# Altium integrated library Diodes - TVS.IntLib: 5379 symbols (part 35 of 122)
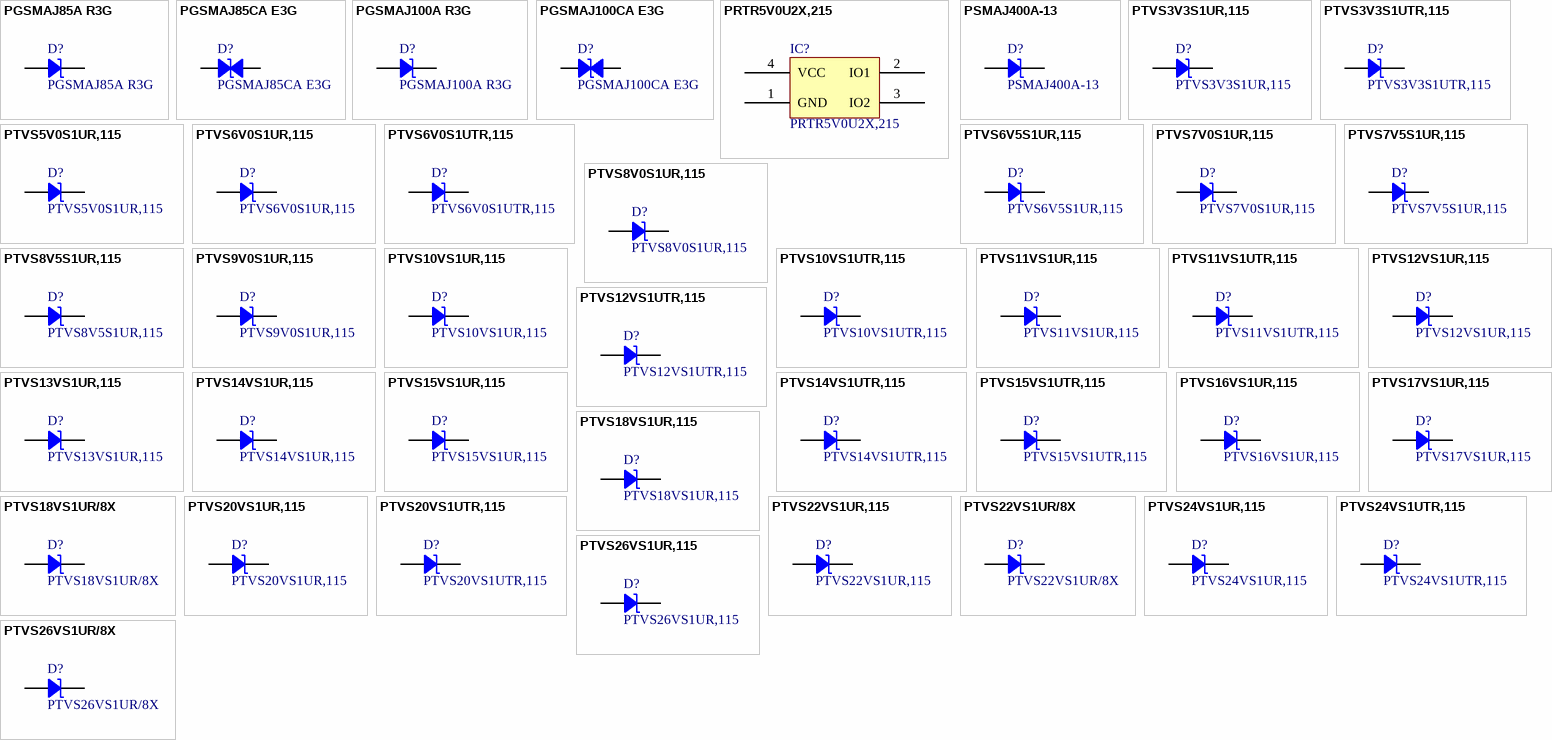
[diagram p168: symbols PGSMAJ85A R3G to PTVS26VS1UR/8X]

## PTVS16VS1UR,115
designator D?
TVS DIODE 16V 26V CFP3; Manufacturer: Nexperia USA Inc.; Current - Peak Pulse (10/1000µs): 15.4A; Power Line Protection: No; Power - Peak Pulse: 400W; Type: Zener; Unidirectional Channels: 1; Voltage - Breakdown (Min): 17.8V; Part Number: PTVS16VS1UR,115; Applications: Automotive; ComponentLink1Description: Datasheet; ComponentLink1URL: https://assets.nexperia.com/documents/data-sheet/PTVSXS1UR_SER.pdf; ComponentLink2Description: DigiKey Link; ComponentLink2URL: http://digikey.com/product-detail/en/nexperia-usa-inc/PTVS16VS1UR115/1727-5863-1-ND/2697350; LastUpdated: 9/2/2020 1:28:40 AM; Lifecycle Status: Active; Minimum Order: 1; Mounting Type: Surface Mount; Operating Temperature: -55°C ~ 150°C (TA); Package / Case: SOD-123W; Packaging: TapeAndReel; PartId: 10279; Part Status: Active; Price: 0.09; Series: Automotive, AEC-Q101; Supplier 1: DigiKey; Supplier Part Number 1: 1727-5863-1-ND; Supplier Device Package: CFP3; Voltage - Clamping (Max) @ Ipp: 26V; Voltage - Reverse Standoff (Typ): 16V
footprint SOD-123W
pins: 1, 2

## PTVS17VS1UR,115
designator D?
TVS DIODE 17V 27.6V CFP3; Manufacturer: Nexperia USA Inc.; Current - Peak Pulse (10/1000µs): 14.5A; Power Line Protection: No; Power - Peak Pulse: 400W; Type: Zener; Unidirectional Channels: 1; Voltage - Breakdown (Min): 18.9V; Part Number: PTVS17VS1UR,115; Applications: Automotive; ComponentLink1Description: Datasheet; ComponentLink1URL: https://assets.nexperia.com/documents/data-sheet/PTVSXS1UR_SER.pdf; ComponentLink2Description: DigiKey Link; ComponentLink2URL: http://digikey.com/product-detail/en/nexperia-usa-inc/PTVS17VS1UR115/1727-5864-1-ND/2697382; LastUpdated: 9/2/2020 1:28:40 AM; Lifecycle Status: Active; Minimum Order: 1; Mounting Type: Surface Mount; Operating Temperature: -55°C ~ 150°C (TA); Package / Case: SOD-123W; Packaging: TapeAndReel; PartId: 10282; Part Status: Active; Price: 0.09; Series: Automotive, AEC-Q101; Supplier 1: DigiKey; Supplier Part Number 1: 1727-5864-1-ND; Supplier Device Package: CFP3; Voltage - Clamping (Max) @ Ipp: 27.6V; Voltage - Reverse Standoff (Typ): 17V
footprint SOD-123W
pins: 1, 2

## PTVS18VS1UR,115
designator D?
TVS DIODE 18V 29.2V CFP3; Manufacturer: Nexperia USA Inc.; Current - Peak Pulse (10/1000µs): 13.7A; Power Line Protection: No; Power - Peak Pulse: 400W; Type: Zener; Unidirectional Channels: 1; Voltage - Breakdown (Min): 20V; Part Number: PTVS18VS1UR,115; Applications: Automotive; ComponentLink1Description: Datasheet; ComponentLink1URL: https://assets.nexperia.com/documents/data-sheet/PTVSXS1UR_SER.pdf; ComponentLink2Description: DigiKey Link; ComponentLink2URL: http://digikey.com/product-detail/en/nexperia-usa-inc/PTVS18VS1UR115/1727-5319-1-ND/2676795; LastUpdated: 9/2/2020 1:28:40 AM; Lifecycle Status: Active; Minimum Order: 1; Mounting Type: Surface Mount; Operating Temperature: -55°C ~ 150°C (TA); Package / Case: SOD-123W; Packaging: TapeAndReel; PartId: 10320; Part Status: Active; Price: 0.09; Series: Automotive, AEC-Q101; Supplier 1: DigiKey; Supplier Part Number 1: 1727-5319-1-ND; Supplier Device Package: CFP3; Voltage - Clamping (Max) @ Ipp: 29.2V; Voltage - Reverse Standoff (Typ): 18V
footprint SOD-123W
pins: 1, 2

## PTVS18VS1UR/8X
designator D?
PTVS18VS1UR/8/SOD123/SOD2; Manufacturer: Nexperia USA Inc.; Current - Peak Pulse (10/1000µs): 13.7A; Power Line Protection: No; Power - Peak Pulse: 400W; Type: Zener; Unidirectional Channels: 1; Voltage - Breakdown (Min): 20V; Voltage - Clamping (Max) @ Ipp: 29.2V; Voltage - Reverse Standoff (Typ): 18V; Part Number: PTVS18VS1UR/8X; Applications: Automotive; ComponentLink1Description: Datasheet; ComponentLink1URL: https://assets.nexperia.com/documents/data-sheet/PTVSXS1UR_SER.pdf; ComponentLink2Description: DigiKey Link; ComponentLink2URL: http://digikey.com/product-detail/en/nexperia-usa-inc/PTVS18VS1UR-8X/1727-8454-1-ND/9759613; LastUpdated: 9/2/2020 1:28:40 AM; Lifecycle Status: Active; Minimum Order: 1; Mounting Type: Surface Mount; Operating Temperature: -55°C ~ 150°C (TA); Package / Case: SOD-123W; Packaging: TapeAndReel; PartId: 10310; Part Status: Active; Price: 0.09; Series: Automotive, AEC-Q101; Supplier 1: DigiKey; Supplier Part Number 1: 1727-8454-1-ND; Supplier Device Package: CFP3
footprint SOD-123W
pins: 1, 2

## PTVS20VS1UR,115
designator D?
TVS DIODE 20V 32.4V CFP3; Manufacturer: Nexperia USA Inc.; Current - Peak Pulse (10/1000µs): 12.3A; Power Line Protection: No; Power - Peak Pulse: 400W; Type: Zener; Unidirectional Channels: 1; Voltage - Breakdown (Min): 22.2V; Part Number: PTVS20VS1UR,115; Applications: Automotive; ComponentLink1Description: Datasheet; ComponentLink1URL: https://assets.nexperia.com/documents/data-sheet/PTVSXS1UR_SER.pdf; ComponentLink2Description: DigiKey Link; ComponentLink2URL: http://digikey.com/product-detail/en/nexperia-usa-inc/PTVS20VS1UR115/1727-5865-1-ND/2697361; LastUpdated: 9/2/2020 1:28:40 AM; Lifecycle Status: Active; Minimum Order: 1; Mounting Type: Surface Mount; Operating Temperature: -55°C ~ 150°C (TA); Package / Case: SOD-123W; Packaging: TapeAndReel; PartId: 10330; Part Status: Active; Price: 0.10; Series: Automotive, AEC-Q101; Supplier 1: DigiKey; Supplier Part Number 1: 1727-5865-1-ND; Supplier Device Package: CFP3; Voltage - Clamping (Max) @ Ipp: 32.4V; Voltage - Reverse Standoff (Typ): 20V
footprint SOD-123W
pins: 1, 2

## PTVS20VS1UTR,115
designator D?
TVS DIODE 20V 32.4V CFP3; Manufacturer: Nexperia USA Inc.; Current - Peak Pulse (10/1000µs): 12.3A; Power Line Protection: No; Power - Peak Pulse: 400W; Type: Zener; Unidirectional Channels: 1; Voltage - Breakdown (Min): 22.2V; Part Number: PTVS20VS1UTR,115; Applications: Automotive; ComponentLink1Description: Datasheet; ComponentLink1URL: https://assets.nexperia.com/documents/data-sheet/PTVSXS1UTR_SER.pdf; ComponentLink2Description: DigiKey Link; ComponentLink2URL: http://digikey.com/product-detail/en/nexperia-usa-inc/PTVS20VS1UTR115/1727-1400-1-ND/4386446; LastUpdated: 9/2/2020 1:28:40 AM; Lifecycle Status: Active; Minimum Order: 1; Mounting Type: Surface Mount; Operating Temperature: -55°C ~ 185°C (TA); Package / Case: SOD-123W; Packaging: TapeAndReel; PartId: 10333; Part Status: Active; Price: 0.10; Series: Automotive, AEC-Q101; Supplier 1: DigiKey; Supplier Part Number 1: 1727-1400-1-ND; Supplier Device Package: CFP3; Voltage - Clamping (Max) @ Ipp: 32.4V; Voltage - Reverse Standoff (Typ): 20V
footprint SOD-123W
pins: 1, 2

## PTVS22VS1UR,115
designator D?
TVS DIODE 22V 35.5V CFP3; Manufacturer: Nexperia USA Inc.; Current - Peak Pulse (10/1000µs): 11.3A; Power Line Protection: No; Power - Peak Pulse: 400W; Type: Zener; Unidirectional Channels: 1; Voltage - Breakdown (Min): 24.4V; Part Number: PTVS22VS1UR,115; Applications: Automotive; ComponentLink1Description: Datasheet; ComponentLink1URL: https://assets.nexperia.com/documents/data-sheet/PTVSXS1UR_SER.pdf; ComponentLink2Description: DigiKey Link; ComponentLink2URL: http://digikey.com/product-detail/en/nexperia-usa-inc/PTVS22VS1UR115/1727-5866-1-ND/2697383; LastUpdated: 9/2/2020 1:28:40 AM; Lifecycle Status: Active; Minimum Order: 1; Mounting Type: Surface Mount; Operating Temperature: -55°C ~ 150°C (TA); Package / Case: SOD-123W; Packaging: TapeAndReel; PartId: 10272; Part Status: Active; Price: 0.10; Series: Automotive, AEC-Q101; Supplier 1: DigiKey; Supplier Part Number 1: 1727-5866-1-ND; Supplier Device Package: CFP3; Voltage - Clamping (Max) @ Ipp: 35.5V; Voltage - Reverse Standoff (Typ): 22V
footprint SOD-123W
pins: 1, 2

## PTVS22VS1UR/8X
designator D?
PTVS22VS1UR/8/SOD123/SOD2; Manufacturer: Nexperia USA Inc.; Current - Peak Pulse (10/1000µs): 11.3A; Power Line Protection: No; Power - Peak Pulse: 400W; Type: Zener; Unidirectional Channels: 1; Voltage - Breakdown (Min): 24.4V; Voltage - Clamping (Max) @ Ipp: 35.5V; Voltage - Reverse Standoff (Typ): 22V; Part Number: PTVS22VS1UR/8X; Applications: Automotive; ComponentLink1Description: Datasheet; ComponentLink1URL: https://assets.nexperia.com/documents/data-sheet/PTVSXS1UR_SER.pdf; ComponentLink2Description: DigiKey Link; ComponentLink2URL: http://digikey.com/product-detail/en/nexperia-usa-inc/PTVS22VS1UR-8X/1727-8455-1-ND/9759614; LastUpdated: 9/2/2020 1:28:40 AM; Lifecycle Status: Active; Minimum Order: 0; Mounting Type: Surface Mount; Operating Temperature: -55°C ~ 150°C (TA); Package / Case: SOD-123W; Packaging: TapeAndReel; PartId: 10292; Part Status: Active; Price: 0.10; Series: Automotive, AEC-Q101; Supplier 1: DigiKey; Supplier Part Number 1: 1727-8455-1-ND; Supplier Device Package: CFP3
footprint SOD-123W
pins: 1, 2

## PTVS24VS1UR,115
designator D?
TVS DIODE 24V 38.9V CFP3; Manufacturer: Nexperia USA Inc.; Current - Peak Pulse (10/1000µs): 10.3A; Power Line Protection: No; Power - Peak Pulse: 400W; Type: Zener; Unidirectional Channels: 1; Voltage - Breakdown (Min): 26.7V; Part Number: PTVS24VS1UR,115; Applications: Automotive; ComponentLink1Description: Datasheet; ComponentLink1URL: https://assets.nexperia.com/documents/data-sheet/PTVSXS1UR_SER.pdf; ComponentLink2Description: DigiKey Link; ComponentLink2URL: http://digikey.com/product-detail/en/nexperia-usa-inc/PTVS24VS1UR115/1727-5867-1-ND/2697357; LastUpdated: 9/2/2020 1:28:40 AM; Lifecycle Status: Active; Minimum Order: 1; Mounting Type: Surface Mount; Operating Temperature: -55°C ~ 150°C (TA); Package / Case: SOD-123W; Packaging: TapeAndReel; PartId: 10319; Part Status: Active; Price: 0.10; Series: Automotive, AEC-Q101; Supplier 1: DigiKey; Supplier Part Number 1: 1727-5867-1-ND; Supplier Device Package: CFP3; Voltage - Clamping (Max) @ Ipp: 38.9V; Voltage - Reverse Standoff (Typ): 24V
footprint SOD-123W
pins: 1, 2

## PTVS24VS1UTR,115
designator D?
TVS DIODE 24V 38.9V CFP3; Manufacturer: Nexperia USA Inc.; Current - Peak Pulse (10/1000µs): 10.3A; Power Line Protection: No; Power - Peak Pulse: 400W; Type: Zener; Unidirectional Channels: 1; Voltage - Breakdown (Min): 26.7V; Part Number: PTVS24VS1UTR,115; Applications: Automotive; ComponentLink1Description: Datasheet; ComponentLink1URL: https://assets.nexperia.com/documents/data-sheet/PTVSXS1UTR_SER.pdf; ComponentLink2Description: DigiKey Link; ComponentLink2URL: http://digikey.com/product-detail/en/nexperia-usa-inc/PTVS24VS1UTR115/1727-1404-1-ND/4386450; LastUpdated: 9/2/2020 1:28:40 AM; Lifecycle Status: Active; Minimum Order: 1; Mounting Type: Surface Mount; Operating Temperature: -55°C ~ 185°C (TA); Package / Case: SOD-123W; Packaging: TapeAndReel; PartId: 10289; Part Status: Active; Price: 0.10; Series: Automotive, AEC-Q101; Supplier 1: DigiKey; Supplier Part Number 1: 1727-1404-1-ND; Supplier Device Package: CFP3; Voltage - Clamping (Max) @ Ipp: 38.9V; Voltage - Reverse Standoff (Typ): 24V
footprint SOD-123W
pins: 1, 2

## PTVS26VS1UR,115
designator D?
TVS DIODE 26V 42.1V CFP3; Manufacturer: Nexperia USA Inc.; Current - Peak Pulse (10/1000µs): 9.5A; Power Line Protection: No; Power - Peak Pulse: 400W; Type: Zener; Unidirectional Channels: 1; Voltage - Breakdown (Min): 28.9V; Part Number: PTVS26VS1UR,115; Applications: Automotive; ComponentLink1Description: Datasheet; ComponentLink1URL: https://assets.nexperia.com/documents/data-sheet/PTVSXS1UR_SER.pdf; ComponentLink2Description: DigiKey Link; ComponentLink2URL: http://digikey.com/product-detail/en/nexperia-usa-inc/PTVS26VS1UR115/1727-5868-1-ND/2697442; LastUpdated: 9/2/2020 1:28:40 AM; Lifecycle Status: Active; Minimum Order: 1; Mounting Type: Surface Mount; Operating Temperature: -55°C ~ 150°C (TA); Package / Case: SOD-123W; Packaging: TapeAndReel; PartId: 10326; Part Status: Active; Price: 0.10; Series: Automotive, AEC-Q101; Supplier 1: DigiKey; Supplier Part Number 1: 1727-5868-1-ND; Supplier Device Package: CFP3; Voltage - Clamping (Max) @ Ipp: 42.1V; Voltage - Reverse Standoff (Typ): 26V
footprint SOD-123W
pins: 1, 2

## PTVS26VS1UR/8X
designator D?
PTVS26VS1UR/8/SOD123/SOD2; Manufacturer: Nexperia USA Inc.; Current - Peak Pulse (10/1000µs): 9.5A; Power Line Protection: No; Power - Peak Pulse: 400W; Type: Zener; Unidirectional Channels: 1; Voltage - Breakdown (Min): 28.9V; Voltage - Clamping (Max) @ Ipp: 42.1V; Voltage - Reverse Standoff (Typ): 26V; Part Number: PTVS26VS1UR/8X; Applications: Automotive; ComponentLink1Description: Datasheet; ComponentLink1URL: https://assets.nexperia.com/documents/data-sheet/PTVSXS1UR_SER.pdf; ComponentLink2Description: DigiKey Link; ComponentLink2URL: http://digikey.com/product-detail/en/nexperia-usa-inc/PTVS26VS1UR-8X/1727-8453-1-ND/9759612; LastUpdated: 9/2/2020 1:28:40 AM; Lifecycle Status: Active; Minimum Order: 0; Mounting Type: Surface Mount; Operating Temperature: -55°C ~ 150°C (TA); Package / Case: SOD-123W; Packaging: TapeAndReel; PartId: 10311; Part Status: Active; Price: 0.09; Series: Automotive, AEC-Q101; Supplier 1: DigiKey; Supplier Part Number 1: 1727-8453-1-ND; Supplier Device Package: CFP3
footprint SOD-123W
pins: 1, 2

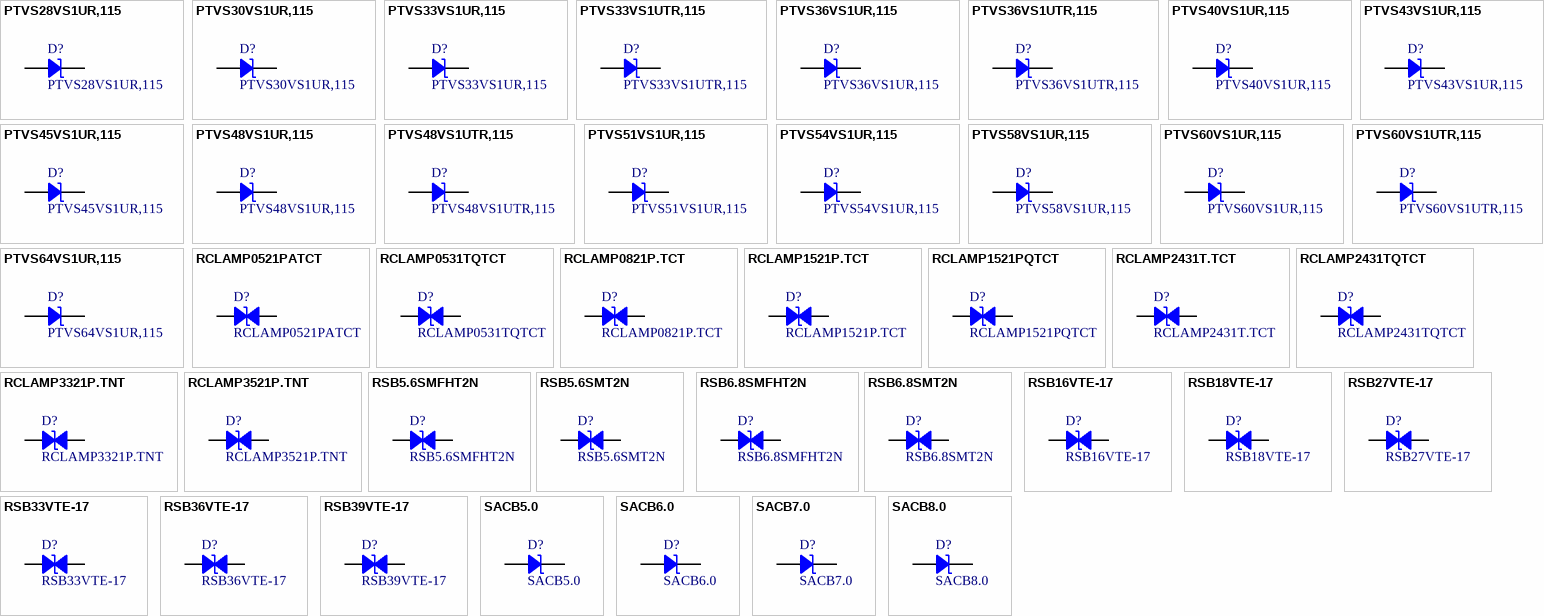
[diagram p38: symbols PTVS28VS1UR,115 to SACB8.0]

## PTVS28VS1UR,115
designator D?
TVS DIODE 28V 45.4V CFP3; Manufacturer: Nexperia USA Inc.; Current - Peak Pulse (10/1000µs): 8.8A; Power Line Protection: No; Power - Peak Pulse: 400W; Type: Zener; Unidirectional Channels: 1; Voltage - Breakdown (Min): 31.1V; Part Number: PTVS28VS1UR,115; Applications: Automotive; ComponentLink1Description: Datasheet; ComponentLink1URL: https://assets.nexperia.com/documents/data-sheet/PTVSXS1UR_SER.pdf; ComponentLink2Description: DigiKey Link; ComponentLink2URL: http://digikey.com/product-detail/en/nexperia-usa-inc/PTVS28VS1UR115/1727-5869-1-ND/2697472; LastUpdated: 9/2/2020 1:28:40 AM; Lifecycle Status: Active; Minimum Order: 1; Mounting Type: Surface Mount; Operating Temperature: -55°C ~ 150°C (TA); Package / Case: SOD-123W; Packaging: TapeAndReel; PartId: 10322; Part Status: Active; Price: 0.10; Series: Automotive, AEC-Q101; Supplier 1: DigiKey; Supplier Part Number 1: 1727-5869-1-ND; Supplier Device Package: CFP3; Voltage - Clamping (Max) @ Ipp: 45.4V; Voltage - Reverse Standoff (Typ): 28V
footprint SOD-123W
pins: 1, 2

## PTVS30VS1UR,115
designator D?
TVS DIODE 30V 48.4V CFP3; Manufacturer: Nexperia USA Inc.; Current - Peak Pulse (10/1000µs): 8.3A; Power Line Protection: No; Power - Peak Pulse: 400W; Type: Zener; Unidirectional Channels: 1; Voltage - Breakdown (Min): 33.3V; Part Number: PTVS30VS1UR,115; Applications: Automotive; ComponentLink1Description: Datasheet; ComponentLink1URL: https://assets.nexperia.com/documents/data-sheet/PTVSXS1UR_SER.pdf; ComponentLink2Description: DigiKey Link; ComponentLink2URL: http://digikey.com/product-detail/en/nexperia-usa-inc/PTVS30VS1UR115/1727-5870-1-ND/2697452; LastUpdated: 9/2/2020 1:28:41 AM; Lifecycle Status: Active; Minimum Order: 1; Mounting Type: Surface Mount; Operating Temperature: -55°C ~ 150°C (TA); Package / Case: SOD-123W; Packaging: TapeAndReel; PartId: 10353; Part Status: Active; Price: 0.10; Series: Automotive, AEC-Q101; Supplier 1: DigiKey; Supplier Part Number 1: 1727-5870-1-ND; Supplier Device Package: CFP3; Voltage - Clamping (Max) @ Ipp: 48.4V; Voltage - Reverse Standoff (Typ): 30V
footprint SOD-123W
pins: 1, 2

## PTVS33VS1UR,115
designator D?
TVS DIODE 33V 53.3V CFP3; Manufacturer: Nexperia USA Inc.; Current - Peak Pulse (10/1000µs): 7.5A; Power Line Protection: No; Power - Peak Pulse: 400W; Type: Zener; Unidirectional Channels: 1; Voltage - Breakdown (Min): 36.7V; Part Number: PTVS33VS1UR,115; Applications: Automotive; ComponentLink1Description: Datasheet; ComponentLink1URL: https://assets.nexperia.com/documents/data-sheet/PTVSXS1UR_SER.pdf; ComponentLink2Description: DigiKey Link; ComponentLink2URL: http://digikey.com/product-detail/en/nexperia-usa-inc/PTVS33VS1UR115/1727-5871-1-ND/2697445; LastUpdated: 9/2/2020 1:28:40 AM; Lifecycle Status: Active; Minimum Order: 1; Mounting Type: Surface Mount; Operating Temperature: -55°C ~ 150°C (TA); Package / Case: SOD-123W; Packaging: TapeAndReel; PartId: 10329; Part Status: Active; Price: 0.10; Series: Automotive, AEC-Q101; Supplier 1: DigiKey; Supplier Part Number 1: 1727-5871-1-ND; Supplier Device Package: CFP3; Voltage - Clamping (Max) @ Ipp: 53.3V; Voltage - Reverse Standoff (Typ): 33V
footprint SOD-123W
pins: 1, 2

## PTVS33VS1UTR,115
designator D?
TVS DIODE 33V 53.3V CFP3; Manufacturer: Nexperia USA Inc.; Current - Peak Pulse (10/1000µs): 7.5A; Power Line Protection: No; Power - Peak Pulse: 400W; Type: Zener; Unidirectional Channels: 1; Voltage - Breakdown (Min): 36.7V; Part Number: PTVS33VS1UTR,115; Applications: Automotive; ComponentLink1Description: Datasheet; ComponentLink1URL: https://assets.nexperia.com/documents/data-sheet/PTVSXS1UTR_SER.pdf; ComponentLink2Description: DigiKey Link; ComponentLink2URL: http://digikey.com/product-detail/en/nexperia-usa-inc/PTVS33VS1UTR115/1727-1412-1-ND/4386458; LastUpdated: 9/2/2020 1:28:40 AM; Lifecycle Status: Active; Minimum Order: 1; Mounting Type: Surface Mount; Operating Temperature: -55°C ~ 185°C (TA); Package / Case: SOD-123W; Packaging: TapeAndReel; PartId: 10348; Part Status: Active; Price: 0.10; Series: Automotive, AEC-Q101; Supplier 1: DigiKey; Supplier Part Number 1: 1727-1412-1-ND; Supplier Device Package: CFP3; Voltage - Clamping (Max) @ Ipp: 53.3V; Voltage - Reverse Standoff (Typ): 33V
footprint SOD-123W
pins: 1, 2

## PTVS36VS1UR,115
designator D?
TVS DIODE 36V 58.1V CFP3; Manufacturer: Nexperia USA Inc.; Current - Peak Pulse (10/1000µs): 6.9A; Power Line Protection: No; Power - Peak Pulse: 400W; Type: Zener; Unidirectional Channels: 1; Voltage - Breakdown (Min): 40V; Part Number: PTVS36VS1UR,115; Applications: Automotive; ComponentLink1Description: Datasheet; ComponentLink1URL: https://assets.nexperia.com/documents/data-sheet/PTVSXS1UR_SER.pdf; ComponentLink2Description: DigiKey Link; ComponentLink2URL: http://digikey.com/product-detail/en/nexperia-usa-inc/PTVS36VS1UR115/1727-5872-1-ND/2697461; LastUpdated: 9/2/2020 1:28:40 AM; Lifecycle Status: Active; Minimum Order: 1; Mounting Type: Surface Mount; Operating Temperature: -55°C ~ 150°C (TA); Package / Case: SOD-123W; Packaging: TapeAndReel; PartId: 10321; Part Status: Active; Price: 0.10; Series: Automotive, AEC-Q101; Supplier 1: DigiKey; Supplier Part Number 1: 1727-5872-1-ND; Supplier Device Package: CFP3; Voltage - Clamping (Max) @ Ipp: 58.1V; Voltage - Reverse Standoff (Typ): 36V
footprint SOD-123W
pins: 1, 2

## PTVS36VS1UTR,115
designator D?
TVS DIODE 36V 58.1V CFP3; Manufacturer: Nexperia USA Inc.; Current - Peak Pulse (10/1000µs): 6.9A; Power Line Protection: No; Power - Peak Pulse: 400W; Type: Zener; Unidirectional Channels: 1; Voltage - Breakdown (Min): 40V; Part Number: PTVS36VS1UTR,115; Applications: Automotive; ComponentLink1Description: Datasheet; ComponentLink1URL: https://assets.nexperia.com/documents/data-sheet/PTVSXS1UTR_SER.pdf; ComponentLink2Description: DigiKey Link; ComponentLink2URL: http://digikey.com/product-detail/en/nexperia-usa-inc/PTVS36VS1UTR115/1727-1414-1-ND/4386460; LastUpdated: 9/2/2020 1:28:40 AM; Lifecycle Status: Active; Minimum Order: 1; Mounting Type: Surface Mount; Operating Temperature: -55°C ~ 185°C (TA); Package / Case: SOD-123W; Packaging: TapeAndReel; PartId: 10288; Part Status: Active; Price: 0.10; Series: Automotive, AEC-Q101; Supplier 1: DigiKey; Supplier Part Number 1: 1727-1414-1-ND; Supplier Device Package: CFP3; Voltage - Clamping (Max) @ Ipp: 58.1V; Voltage - Reverse Standoff (Typ): 36V
footprint SOD-123W
pins: 1, 2

## PTVS40VS1UR,115
designator D?
TVS DIODE 40V 64.5V CFP3; Manufacturer: Nexperia USA Inc.; Current - Peak Pulse (10/1000µs): 6.2A; Power Line Protection: No; Power - Peak Pulse: 400W; Type: Zener; Unidirectional Channels: 1; Voltage - Breakdown (Min): 44.4V; Part Number: PTVS40VS1UR,115; Applications: Automotive; ComponentLink1Description: Datasheet; ComponentLink1URL: https://assets.nexperia.com/documents/data-sheet/PTVSXS1UR_SER.pdf; ComponentLink2Description: DigiKey Link; ComponentLink2URL: http://digikey.com/product-detail/en/nexperia-usa-inc/PTVS40VS1UR115/1727-5873-1-ND/2697460; LastUpdated: 9/2/2020 1:28:40 AM; Lifecycle Status: Active; Minimum Order: 1; Mounting Type: Surface Mount; Operating Temperature: -55°C ~ 150°C (TA); Package / Case: SOD-123W; Packaging: TapeAndReel; PartId: 10327; Part Status: Active; Price: 0.10; Series: Automotive, AEC-Q101; Supplier 1: DigiKey; Supplier Part Number 1: 1727-5873-1-ND; Supplier Device Package: CFP3; Voltage - Clamping (Max) @ Ipp: 64.5V; Voltage - Reverse Standoff (Typ): 40V
footprint SOD-123W
pins: 1, 2

## PTVS43VS1UR,115
designator D?
TVS DIODE 43V 69.4V CFP3; Manufacturer: Nexperia USA Inc.; Current - Peak Pulse (10/1000µs): 5.8A; Power Line Protection: No; Power - Peak Pulse: 400W; Type: Zener; Unidirectional Channels: 1; Voltage - Breakdown (Min): 47.8V; Part Number: PTVS43VS1UR,115; Applications: Automotive; ComponentLink1Description: Datasheet; ComponentLink1URL: https://assets.nexperia.com/documents/data-sheet/PTVSXS1UR_SER.pdf; ComponentLink2Description: DigiKey Link; ComponentLink2URL: http://digikey.com/product-detail/en/nexperia-usa-inc/PTVS43VS1UR115/1727-5874-1-ND/2697464; LastUpdated: 9/2/2020 1:28:40 AM; Lifecycle Status: Active; Minimum Order: 1; Mounting Type: Surface Mount; Operating Temperature: -55°C ~ 150°C (TA); Package / Case: SOD-123W; Packaging: TapeAndReel; PartId: 10266; Part Status: Active; Price: 0.10; Series: Automotive, AEC-Q101; Supplier 1: DigiKey; Supplier Part Number 1: 1727-5874-1-ND; Supplier Device Package: CFP3; Voltage - Clamping (Max) @ Ipp: 69.4V; Voltage - Reverse Standoff (Typ): 43V
footprint SOD-123W
pins: 1, 2

## PTVS45VS1UR,115
designator D?
TVS DIODE 45V 72.7V CFP3; Manufacturer: Nexperia USA Inc.; Current - Peak Pulse (10/1000µs): 5.5A; Power Line Protection: No; Power - Peak Pulse: 400W; Type: Zener; Unidirectional Channels: 1; Voltage - Breakdown (Min): 50V; Part Number: PTVS45VS1UR,115; Applications: Automotive; ComponentLink1Description: Datasheet; ComponentLink1URL: https://assets.nexperia.com/documents/data-sheet/PTVSXS1UR_SER.pdf; ComponentLink2Description: DigiKey Link; ComponentLink2URL: http://digikey.com/product-detail/en/nexperia-usa-inc/PTVS45VS1UR115/1727-5875-1-ND/2697463; LastUpdated: 9/2/2020 1:28:40 AM; Lifecycle Status: Active; Minimum Order: 1; Mounting Type: Surface Mount; Operating Temperature: -55°C ~ 150°C (TA); Package / Case: SOD-123W; Packaging: TapeAndReel; PartId: 10270; Part Status: Active; Price: 0.10; Series: Automotive, AEC-Q101; Supplier 1: DigiKey; Supplier Part Number 1: 1727-5875-1-ND; Supplier Device Package: CFP3; Voltage - Clamping (Max) @ Ipp: 72.7V; Voltage - Reverse Standoff (Typ): 45V
footprint SOD-123W
pins: 1, 2

## PTVS48VS1UR,115
designator D?
TVS DIODE 48V 77.4V CFP3; Manufacturer: Nexperia USA Inc.; Current - Peak Pulse (10/1000µs): 5.2A; Power Line Protection: No; Power - Peak Pulse: 400W; Type: Zener; Unidirectional Channels: 1; Voltage - Breakdown (Min): 53.3V; Part Number: PTVS48VS1UR,115; Applications: Automotive; ComponentLink1Description: Datasheet; ComponentLink1URL: https://assets.nexperia.com/documents/data-sheet/PTVSXS1UR_SER.pdf; ComponentLink2Description: DigiKey Link; ComponentLink2URL: http://digikey.com/product-detail/en/nexperia-usa-inc/PTVS48VS1UR115/1727-5876-1-ND/2697462; LastUpdated: 9/2/2020 1:28:40 AM; Lifecycle Status: Active; Minimum Order: 1; Mounting Type: Surface Mount; Operating Temperature: -55°C ~ 150°C (TA); Package / Case: SOD-123W; Packaging: TapeAndReel; PartId: 10274; Part Status: Active; Price: 0.10; Series: Automotive, AEC-Q101; Supplier 1: DigiKey; Supplier Part Number 1: 1727-5876-1-ND; Supplier Device Package: CFP3; Voltage - Clamping (Max) @ Ipp: 77.4V; Voltage - Reverse Standoff (Typ): 48V
footprint SOD-123W
pins: 1, 2

## PTVS48VS1UTR,115
designator D?
TVS DIODE 48V 77.4V CFP3; Manufacturer: Nexperia USA Inc.; Current - Peak Pulse (10/1000µs): 5.2A; Power Line Protection: No; Power - Peak Pulse: 400W; Type: Zener; Unidirectional Channels: 1; Voltage - Breakdown (Min): 53.3V; Part Number: PTVS48VS1UTR,115; Applications: Automotive; ComponentLink1Description: Datasheet; ComponentLink1URL: https://assets.nexperia.com/documents/data-sheet/PTVSXS1UTR_SER.pdf; ComponentLink2Description: DigiKey Link; ComponentLink2URL: http://digikey.com/product-detail/en/nexperia-usa-inc/PTVS48VS1UTR115/1727-1424-1-ND/4386470; LastUpdated: 9/2/2020 1:28:40 AM; Lifecycle Status: Active; Minimum Order: 1; Mounting Type: Surface Mount; Operating Temperature: -55°C ~ 185°C (TA); Package / Case: SOD-123W; Packaging: TapeAndReel; PartId: 10287; Part Status: Active; Price: 0.10; Series: Automotive, AEC-Q101; Supplier 1: DigiKey; Supplier Part Number 1: 1727-1424-1-ND; Supplier Device Package: CFP3; Voltage - Clamping (Max) @ Ipp: 77.4V; Voltage - Reverse Standoff (Typ): 48V
footprint SOD-123W
pins: 1, 2

## PTVS51VS1UR,115
designator D?
TVS DIODE 51V 82.4V CFP3; Manufacturer: Nexperia USA Inc.; Current - Peak Pulse (10/1000µs): 4.9A; Power Line Protection: No; Power - Peak Pulse: 400W; Type: Zener; Unidirectional Channels: 1; Voltage - Breakdown (Min): 56.7V; Part Number: PTVS51VS1UR,115; Applications: Automotive; ComponentLink1Description: Datasheet; ComponentLink1URL: https://assets.nexperia.com/documents/data-sheet/PTVSXS1UR_SER.pdf; ComponentLink2Description: DigiKey Link; ComponentLink2URL: http://digikey.com/product-detail/en/nexperia-usa-inc/PTVS51VS1UR115/1727-5877-1-ND/2697450; LastUpdated: 9/2/2020 1:28:40 AM; Lifecycle Status: Active; Minimum Order: 1; Mounting Type: Surface Mount; Operating Temperature: -55°C ~ 150°C (TA); Package / Case: SOD-123W; Packaging: TapeAndReel; PartId: 10280; Part Status: Active; Price: 0.10; Series: Automotive, AEC-Q101; Supplier 1: DigiKey; Supplier Part Number 1: 1727-5877-1-ND; Supplier Device Package: CFP3; Voltage - Clamping (Max) @ Ipp: 82.4V; Voltage - Reverse Standoff (Typ): 51V
footprint SOD-123W
pins: 1, 2

## PTVS54VS1UR,115
designator D?
TVS DIODE 54V 87.1V CFP3; Manufacturer: Nexperia USA Inc.; Current - Peak Pulse (10/1000µs): 4.6A; Power Line Protection: No; Power - Peak Pulse: 400W; Type: Zener; Unidirectional Channels: 1; Voltage - Breakdown (Min): 60V; Part Number: PTVS54VS1UR,115; Applications: Automotive; ComponentLink1Description: Datasheet; ComponentLink1URL: https://assets.nexperia.com/documents/data-sheet/PTVSXS1UR_SER.pdf; ComponentLink2Description: DigiKey Link; ComponentLink2URL: http://digikey.com/product-detail/en/nexperia-usa-inc/PTVS54VS1UR115/1727-5878-1-ND/2697426; LastUpdated: 9/2/2020 1:28:40 AM; Lifecycle Status: Active; Minimum Order: 1; Mounting Type: Surface Mount; Operating Temperature: -55°C ~ 150°C (TA); Package / Case: SOD-123W; Packaging: TapeAndReel; PartId: 10275; Part Status: Active; Price: 0.10; Series: Automotive, AEC-Q101; Supplier 1: DigiKey; Supplier Part Number 1: 1727-5878-1-ND; Supplier Device Package: CFP3; Voltage - Clamping (Max) @ Ipp: 87.1V; Voltage - Reverse Standoff (Typ): 54V
footprint SOD-123W
pins: 1, 2

## PTVS58VS1UR,115
designator D?
TVS DIODE 58V 93.6V CFP3; Manufacturer: Nexperia USA Inc.; Current - Peak Pulse (10/1000µs): 4.3A; Power Line Protection: No; Power - Peak Pulse: 400W; Type: Zener; Unidirectional Channels: 1; Voltage - Breakdown (Min): 64.4V; Part Number: PTVS58VS1UR,115; Applications: Automotive; ComponentLink1Description: Datasheet; ComponentLink1URL: https://assets.nexperia.com/documents/data-sheet/PTVSXS1UR_SER.pdf; ComponentLink2Description: DigiKey Link; ComponentLink2URL: http://digikey.com/product-detail/en/nexperia-usa-inc/PTVS58VS1UR115/1727-5344-1-ND/2676824; LastUpdated: 9/2/2020 1:28:40 AM; Lifecycle Status: Active; Minimum Order: 1; Mounting Type: Surface Mount; Operating Temperature: -55°C ~ 150°C (TA); Package / Case: SOD-123W; Packaging: TapeAndReel; PartId: 10283; Part Status: Active; Price: 0.10; Series: Automotive, AEC-Q101; Supplier 1: DigiKey; Supplier Part Number 1: 1727-5344-1-ND; Supplier Device Package: CFP3; Voltage - Clamping (Max) @ Ipp: 93.6V; Voltage - Reverse Standoff (Typ): 58V
footprint SOD-123W
pins: 1, 2

## PTVS60VS1UR,115
designator D?
TVS DIODE 60V 96.8V CFP3; Manufacturer: Nexperia USA Inc.; Current - Peak Pulse (10/1000µs): 4.1A; Power Line Protection: No; Power - Peak Pulse: 400W; Type: Zener; Unidirectional Channels: 1; Voltage - Breakdown (Min): 66.7V; Part Number: PTVS60VS1UR,115; Applications: Automotive; ComponentLink1Description: Datasheet; ComponentLink1URL: https://assets.nexperia.com/documents/data-sheet/PTVSXS1UR_SER.pdf; ComponentLink2Description: DigiKey Link; ComponentLink2URL: http://digikey.com/product-detail/en/nexperia-usa-inc/PTVS60VS1UR115/1727-5879-1-ND/2697498; LastUpdated: 9/2/2020 1:28:40 AM; Lifecycle Status: Active; Minimum Order: 1; Mounting Type: Surface Mount; Operating Temperature: -55°C ~ 150°C (TA); Package / Case: SOD-123W; Packaging: TapeAndReel; PartId: 10277; Part Status: Active; Price: 0.10; Series: Automotive, AEC-Q101; Supplier 1: DigiKey; Supplier Part Number 1: 1727-5879-1-ND; Supplier Device Package: CFP3; Voltage - Clamping (Max) @ Ipp: 96.8V; Voltage - Reverse Standoff (Typ): 60V
footprint SOD-123W
pins: 1, 2

## PTVS60VS1UTR,115
designator D?
TVS DIODE 60V 96.8V CFP3; Manufacturer: Nexperia USA Inc.; Current - Peak Pulse (10/1000µs): 4.1A; Power Line Protection: No; Power - Peak Pulse: 400W; Type: Zener; Unidirectional Channels: 1; Voltage - Breakdown (Min): 66.7V; Part Number: PTVS60VS1UTR,115; Applications: Automotive; ComponentLink1Description: Datasheet; ComponentLink1URL: https://assets.nexperia.com/documents/data-sheet/PTVSXS1UTR_SER.pdf; ComponentLink2Description: DigiKey Link; ComponentLink2URL: http://digikey.com/product-detail/en/nexperia-usa-inc/PTVS60VS1UTR115/1727-1434-1-ND/4386480; LastUpdated: 9/2/2020 1:28:40 AM; Lifecycle Status: Active; Minimum Order: 1; Mounting Type: Surface Mount; Operating Temperature: -55°C ~ 185°C (TA); Package / Case: SOD-123W; Packaging: TapeAndReel; PartId: 10285; Part Status: Active; Price: 0.10; Series: Automotive, AEC-Q101; Supplier 1: DigiKey; Supplier Part Number 1: 1727-1434-1-ND; Supplier Device Package: CFP3; Voltage - Clamping (Max) @ Ipp: 96.8V; Voltage - Reverse Standoff (Typ): 60V
footprint SOD-123W
pins: 1, 2

## PTVS64VS1UR,115
designator D?
TVS DIODE 64V 103V CFP3; Manufacturer: Nexperia USA Inc.; Current - Peak Pulse (10/1000µs): 3.9A; Power Line Protection: No; Power - Peak Pulse: 400W; Type: Zener; Unidirectional Channels: 1; Voltage - Breakdown (Min): 71.1V; Part Number: PTVS64VS1UR,115; Applications: Automotive; ComponentLink1Description: Datasheet; ComponentLink1URL: https://assets.nexperia.com/documents/data-sheet/PTVSXS1UR_SER.pdf; ComponentLink2Description: DigiKey Link; ComponentLink2URL: http://digikey.com/product-detail/en/nexperia-usa-inc/PTVS64VS1UR115/1727-5880-1-ND/2697501; LastUpdated: 9/2/2020 1:28:40 AM; Lifecycle Status: Active; Minimum Order: 1; Mounting Type: Surface Mount; Operating Temperature: -55°C ~ 150°C (TA); Package / Case: SOD-123W; Packaging: TapeAndReel; PartId: 10263; Part Status: Active; Price: 0.10; Series: Automotive, AEC-Q101; Supplier 1: DigiKey; Supplier Part Number 1: 1727-5880-1-ND; Supplier Device Package: CFP3; Voltage - Clamping (Max) @ Ipp: 103V; Voltage - Reverse Standoff (Typ): 64V
footprint SOD-123W
pins: 1, 2

## RCLAMP0521PATCT
designator D?
TVS DIODE 5V 25V SLP1006P2; Manufacturer: Semtech Corporation; Bidirectional Channels: 1; Capacitance @ Frequency: 0.3pF @ 1MHz; Current - Peak Pulse (10/1000µs): 4A (8/20µs); Power Line Protection: No; Power - Peak Pulse: 100W; Type: Zener; Voltage - Breakdown (Min): 6V; Voltage - Reverse Standoff (Typ): 5V (Max); Part Number: RCLAMP0521PATCT; Applications: General Purpose; ComponentLink1Description: Datasheet; ComponentLink1URL: https://www.semtech.com/uploads/documents/rclamp0521pa.pdf; ComponentLink2Description: DigiKey Link; ComponentLink2URL: http://digikey.com/product-detail/en/semtech-corporation/RCLAMP0521PATCT/RCLAMP0521PACT-ND/2603614; Device Package: 0402 (1006 Metric); LastUpdated: 9/2/2020 1:28:48 AM; Lifecycle Status: Active; Minimum Order: 1; Mounting Type: Surface Mount; Operating Temperature: -55°C ~ 125°C (TJ); Package / Case: 0402 (1006 Metric); Packaging: TapeAndReel; PartId: 10414; Part Status: Active; Price: 0.29; Series: RailClamp®; Supplier 1: DigiKey; Supplier Part Number 1: RCLAMP0521PACT-ND; Supplier Device Package: SLP1006P2; Voltage - Clamping (Max) @ Ipp: 25V
footprint 0402
pins: 1, 2

## RCLAMP0531TQTCT
designator D?
TVS DIODE 5V 20V SLP1006P2T; Manufacturer: Semtech Corporation; Bidirectional Channels: 1; Capacitance @ Frequency: 0.85pF @ 1MHz; Current - Peak Pulse (10/1000µs): 4A (8/20µs); Power Line Protection: No; Power - Peak Pulse: 80W; Type: Zener; Voltage - Breakdown (Min): 6V; Voltage - Reverse Standoff (Typ): 5V (Max); Part Number: RCLAMP0531TQTCT; Applications: Automotive; ComponentLink1Description: Datasheet; ComponentLink1URL: https://www.semtech.com/uploads/documents/rclamp0531tq.pdf; ComponentLink2Description: DigiKey Link; ComponentLink2URL: http://digikey.com/product-detail/en/semtech-corporation/RCLAMP0531TQTCT/RCLAMP0531TQTCTCT-ND/4501982; Device Package: 0402 (1006 Metric); LastUpdated: 9/2/2020 1:28:48 AM; Lifecycle Status: Active; Minimum Order: 1; Mounting Type: Surface Mount; Operating Temperature: -40°C ~ 125°C (TJ); Package / Case: 0402 (1006 Metric); Packaging: TapeAndReel; PartId: 10406; Part Status: Active; Price: 0.47; Series: Automotive, AEC-Q100, RailClamp®; Supplier 1: DigiKey; Supplier Part Number 1: RCLAMP0531TQTCTCT-ND; Supplier Device Package: SLP1006P2T; Voltage - Clamping (Max) @ Ipp: 20V
footprint 0402
pins: 1, 2

## RCLAMP0821P.TCT
designator D?
TVS DIODE 8V 25V SLP1006P2; Manufacturer: Semtech Corporation; Bidirectional Channels: 1; Capacitance @ Frequency: 0.3pF @ 1MHz; Current - Peak Pulse (10/1000µs): 4A (8/20µs); Power Line Protection: No; Power - Peak Pulse: 100W; Type: Zener; Voltage - Breakdown (Min): 10V; Voltage - Reverse Standoff (Typ): 8V (Max); Part Number: RCLAMP0821P.TCT; Applications: General Purpose; ComponentLink1Description: Datasheet; ComponentLink1URL: https://www.semtech.com/uploads/documents/rclamp0821p.pdf; ComponentLink2Description: DigiKey Link; ComponentLink2URL: http://digikey.com/product-detail/en/semtech-corporation/RCLAMP0821P.TCT/RCLAMP0821P.TCTCT-ND/5113719; Device Package: 0402 (1006 Metric); LastUpdated: 9/2/2020 1:28:49 AM; Lifecycle Status: Active; Minimum Order: 1; Mounting Type: Surface Mount; Operating Temperature: -55°C ~ 125°C (TJ); Package / Case: 0402 (1006 Metric); Packaging: TapeAndReel; PartId: 10456; Part Status: Active; Price: 0.36; Series: RailClamp®; Supplier 1: DigiKey; Supplier Part Number 1: RCLAMP0821P.TCTCT-ND; Supplier Device Package: SLP1006P2; Voltage - Clamping (Max) @ Ipp: 25V
footprint 0402
pins: 1, 2

## RCLAMP1521P.TCT
designator D?
TVS DIODE 15V 30V SLP1006P2; Manufacturer: Semtech Corporation; Bidirectional Channels: 1; Capacitance @ Frequency: 0.3pF @ 1MHz; Current - Peak Pulse (10/1000µs): 4A (8/20µs); Power Line Protection: No; Power - Peak Pulse: 120W; Type: Zener; Voltage - Breakdown (Min): 16.7V; Voltage - Reverse Standoff (Typ): 15V (Max); Part Number: RCLAMP1521P.TCT; Applications: General Purpose; ComponentLink1Description: Datasheet; ComponentLink1URL: https://semtech.my.salesforce.com/sfc/p/#E0000000JelG/a/44000000MCUn/HAw56IA3vm9.Fq.kV0q5lKQUjITj9qsZJYMhG0ExhTo; ComponentLink2Description: DigiKey Link; ComponentLink2URL: http://digikey.com/product-detail/en/semtech-corporation/RCLAMP1521P.TCT/RCLAMP1521P.TCTCT-ND/5113723; Device Package: 0402 (1006 Metric); LastUpdated: 9/2/2020 1:28:48 AM; Lifecycle Status: Active; Minimum Order: 1; Mounting Type: Surface Mount; Operating Temperature: -55°C ~ 125°C (TJ); Package / Case: 0402 (1006 Metric); Packaging: TapeAndReel; PartId: 10409; Part Status: Active; Price: 0.33; Series: RailClamp®; Supplier 1: DigiKey; Supplier Part Number 1: RCLAMP1521P.TCTCT-ND; Supplier Device Package: SLP1006P2; Voltage - Clamping (Max) @ Ipp: 30V
footprint 0402
pins: 1, 2

## RCLAMP1521PQTCT
designator D?
TVS DIODE 15V 35V SLP1006P2; Manufacturer: Semtech Corporation; Bidirectional Channels: 1; Capacitance @ Frequency: 0.3pF @ 1MHz; Current - Peak Pulse (10/1000µs): 4A (8/20µs); Power Line Protection: No; Power - Peak Pulse: 120W; Type: Zener; Voltage - Breakdown (Min): 16.7V; Voltage - Reverse Standoff (Typ): 15V (Max); Part Number: RCLAMP1521PQTCT; Applications: Automotive; ComponentLink1Description: Datasheet; ComponentLink1URL: https://www.semtech.com/uploads/documents/rclamp1521pq.pdf; ComponentLink2Description: DigiKey Link; ComponentLink2URL: http://digikey.com/product-detail/en/semtech-corporation/RCLAMP1521PQTCT/RCLAMP1521PQTCTCT-ND/4626687; Device Package: 0402 (1006 Metric); LastUpdated: 9/2/2020 1:28:49 AM; Lifecycle Status: Active; Minimum Order: 1; Mounting Type: Surface Mount; Operating Temperature: -40°C ~ 125°C (TJ); Package / Case: 0402 (1006 Metric); Packaging: TapeAndReel; PartId: 10488; Part Status: Active; Price: 0.40; Series: Automotive, AEC-Q100, RailClamp®; Supplier 1: DigiKey; Supplier Part Number 1: RCLAMP1521PQTCTCT-ND; Supplier Device Package: SLP1006P2; Voltage - Clamping (Max) @ Ipp: 35V
footprint 0402
pins: 1, 2

## RCLAMP2431T.TCT
designator D?
TVS DIODE 24V 50V SLP1006P2T; Manufacturer: Semtech Corporation; Bidirectional Channels: 1; Capacitance @ Frequency: 0.35pF @ 1MHz; Current - Peak Pulse (10/1000µs): 2A (8/20µs); Power Line Protection: No; Power - Peak Pulse: 100W; Type: Zener; Voltage - Breakdown (Min): 26.7V; Voltage - Reverse Standoff (Typ): 24V (Max); Part Number: RCLAMP2431T.TCT; Applications: General Purpose; ComponentLink1Description: Datasheet; ComponentLink1URL: https://www.semtech.com/uploads/documents/rclamp2431t.pdf; ComponentLink2Description: DigiKey Link; ComponentLink2URL: http://digikey.com/product-detail/en/semtech-corporation/RCLAMP2431T.TCT/RCLAMP2431TTCTCT-ND/4626689; Device Package: 0402 (1006 Metric); LastUpdated: 9/2/2020 1:28:48 AM; Lifecycle Status: Active; Minimum Order: 1; Mounting Type: Surface Mount; Operating Temperature: -40°C ~ 85°C (TJ); Package / Case: 0402 (1006 Metric); Packaging: TapeAndReel; PartId: 10436; Part Status: Active; Price: 0.35; Series: RailClamp®; Supplier 1: DigiKey; Supplier Part Number 1: RCLAMP2431TTCTCT-ND; Supplier Device Package: SLP1006P2T; Voltage - Clamping (Max) @ Ipp: 50V
footprint 0402
pins: 1, 2

## RCLAMP2431TQTCT
designator D?
TVS DIODE 24V 50V SLP1006P2T; Manufacturer: Semtech Corporation; Bidirectional Channels: 1; Capacitance @ Frequency: 0.35pF @ 1MHz; Current - Peak Pulse (10/1000µs): 2A (8/20µs); Power Line Protection: No; Power - Peak Pulse: 100W; Type: Zener; Voltage - Breakdown (Min): 26.7V; Voltage - Reverse Standoff (Typ): 24V (Max); Part Number: RCLAMP2431TQTCT; Applications: Automotive; ComponentLink1Description: Datasheet; ComponentLink1URL: https://www.semtech.com/uploads/documents/rclamp2431tq.pdf; ComponentLink2Description: DigiKey Link; ComponentLink2URL: http://digikey.com/product-detail/en/semtech-corporation/RCLAMP2431TQTCT/RCLAMP2431TQTCTCT-ND/4626690; Device Package: 0402 (1006 Metric); LastUpdated: 9/2/2020 1:28:48 AM; Lifecycle Status: Active; Minimum Order: 1; Mounting Type: Surface Mount; Operating Temperature: -40°C ~ 125°C (TJ); Package / Case: 0402 (1006 Metric); Packaging: TapeAndReel; PartId: 10407; Part Status: Active; Price: 0.47; Series: Automotive, AEC-Q100, RailClamp®; Supplier 1: DigiKey; Supplier Part Number 1: RCLAMP2431TQTCTCT-ND; Supplier Device Package: SLP1006P2T; Voltage - Clamping (Max) @ Ipp: 50V
footprint 0402
pins: 1, 2

## RCLAMP3321P.TNT
designator D?
TVS DIODE 3.3V 13V SLP1006P2; Manufacturer: Semtech Corporation; Bidirectional Channels: 1; Capacitance @ Frequency: 0.22pF @ 1MHz; Current - Peak Pulse (10/1000µs): 4A (8/20µs); Power Line Protection: No; Power - Peak Pulse: 25W; Type: Zener; Voltage - Breakdown (Min): 5.5V; Voltage - Reverse Standoff (Typ): 3.3V (Max); Part Number: RCLAMP3321P.TNT; Applications: HDMI; ComponentLink1Description: Datasheet; ComponentLink1URL: https://www.semtech.com/uploads/documents/rclamp3321p.pdf; ComponentLink2Description: DigiKey Link; ComponentLink2URL: http://digikey.com/product-detail/en/semtech-corporation/RCLAMP3321P.TNT/RCLAMP3321P.TNTCT-ND/5067283; Device Package: 0402 (1006 Metric); LastUpdated: 9/2/2020 1:28:48 AM; Lifecycle Status: Active; Minimum Order: 1; Mounting Type: Surface Mount; Operating Temperature: -55°C ~ 125°C (TJ); Package / Case: 0402 (1006 Metric); Packaging: TapeAndReel; PartId: 10417; Part Status: Active; Price: 0.25; Series: RailClamp®; Supplier 1: DigiKey; Supplier Part Number 1: RCLAMP3321P.TNTCT-ND; Supplier Device Package: SLP1006P2; Voltage - Clamping (Max) @ Ipp: 13V
footprint 0402
pins: 1, 2

## RCLAMP3521P.TNT
designator D?
TVS DIODE 3.5V 13V SLP1006P2; Manufacturer: Semtech Corporation; Bidirectional Channels: 1; Capacitance @ Frequency: 0.33pF @ 1MHz; Current - Peak Pulse (10/1000µs): 4A (8/20µs); Power Line Protection: No; Power - Peak Pulse: 50W; Type: Zener; Voltage - Breakdown (Min): 4.5V; Voltage - Reverse Standoff (Typ): 3.5V (Max); Part Number: RCLAMP3521P.TNT; Applications: General Purpose; ComponentLink1Description: Datasheet; ComponentLink1URL: https://www.semtech.com/uploads/documents/RClamp3521P.pdf; ComponentLink2Description: DigiKey Link; ComponentLink2URL: http://digikey.com/product-detail/en/semtech-corporation/RCLAMP3521P.TNT/RCLAMP3521P.TNTCT-ND/5226788; Device Package: 0402 (1006 Metric); LastUpdated: 9/2/2020 1:28:48 AM; Lifecycle Status: Active; Minimum Order: 1; Mounting Type: Surface Mount; Operating Temperature: -40°C ~ 125°C (TJ); Package / Case: 0402 (1006 Metric); Packaging: TapeAndReel; PartId: 10419; Part Status: Active; Price: 0.25; Series: RailClamp®; Supplier 1: DigiKey; Supplier Part Number 1: RCLAMP3521P.TNTCT-ND; Supplier Device Package: SLP1006P2; Voltage - Clamping (Max) @ Ipp: 13V
footprint 0402
pins: 1, 2

## RSB5.6SMFHT2N
designator D?
BI-DIRECTIONAL ZENER DIODES (COR; Manufacturer: Rohm Semiconductor; Bidirectional Channels: 1; Capacitance @ Frequency: 50pF @ 1MHz; Power Line Protection: No; Power - Peak Pulse: 10W; Part Number: RSB5.6SMFHT2N; Applications: Automotive; ComponentLink1Description: Datasheet; ComponentLink1URL: https://www.rohm.com/datasheet/RSB5.6SMFH/rsb5.6smfh; ComponentLink2Description: DigiKey Link; ComponentLink2URL: http://digikey.com/product-detail/en/rohm-semiconductor/RSB5.6SMFHT2N/RSB5.6SMFHT2NTR-ND/9697321; LastUpdated: 9/2/2020 1:28:25 AM; Lifecycle Status: Active; Minimum Order: 0; Mounting Type: Surface Mount; Operating Temperature: 150°C (TJ); Package / Case: SC-79, SOD-523; Packaging: TapeAndReel; PartId: 9825; Part Status: Active; Price: 0.08; Series: Automotive, AEC-Q101; Supplier 1: DigiKey; Supplier Part Number 1: RSB5.6SMFHT2NTR-ND; Supplier Device Package: EMD2; Type: Zener
footprint SOD523F
pins: 1, 2

## RSB5.6SMT2N
designator D?
TVS DIODE 2.5V EMD2; Manufacturer: Rohm Semiconductor; Bidirectional Channels: 1; Power Line Protection: No; Power - Peak Pulse: 10W; Type: Zener; Voltage - Breakdown (Min): 4.76V; Part Number: RSB5.6SMT2N; Applications: General Purpose; ComponentLink1Description: Datasheet; ComponentLink1URL: http://rohmfs.rohm.com/en/products/databook/datasheet/discrete/diode/zener/rsb5.6sm.pdf; ComponentLink2Description: DigiKey Link; ComponentLink2URL: http://digikey.com/product-detail/en/rohm-semiconductor/RSB5.6SMT2N/RSB5.6SMT2NTR-ND/3443621; LastUpdated: 9/2/2020 1:28:25 AM; Lifecycle Status: Active; Minimum Order: 0; Mounting Type: Surface Mount; Operating Temperature: -55°C ~ 150°C (TJ); Package / Case: SC-79, SOD-523; Packaging: TapeAndReel; PartId: 9813; Part Status: Active; Price: 0.05; Series: -; Supplier 1: DigiKey; Supplier Part Number 1: RSB5.6SMT2NTR-ND; Supplier Device Package: EMD2; Voltage - Reverse Standoff (Typ): 2.5V
footprint SOD523F
pins: 1, 2

## RSB6.8SMFHT2N
designator D?
BI-DIRECTIONAL ZENER DIODES (COR; Manufacturer: Rohm Semiconductor; Bidirectional Channels: 1; Capacitance @ Frequency: 30pF @ 1MHz; Power Line Protection: No; Power - Peak Pulse: 10W; Part Number: RSB6.8SMFHT2N; Applications: Automotive; ComponentLink1Description: Datasheet; ComponentLink1URL: https://www.rohm.com/datasheet/RSB6.8SMFH/rsb6.8smfh; ComponentLink2Description: DigiKey Link; ComponentLink2URL: http://digikey.com/product-detail/en/rohm-semiconductor/RSB6.8SMFHT2N/RSB6.8SMFHT2NTR-ND/9697322; LastUpdated: 9/2/2020 1:28:25 AM; Lifecycle Status: Active; Minimum Order: 0; Mounting Type: Surface Mount; Operating Temperature: 150°C (TJ); Package / Case: SC-79, SOD-523; Packaging: TapeAndReel; PartId: 9826; Part Status: Active; Price: 0.08; Series: Automotive, AEC-Q101; Supplier 1: DigiKey; Supplier Part Number 1: RSB6.8SMFHT2NTR-ND; Supplier Device Package: EMD2; Type: Zener
footprint SOD523F
pins: 1, 2

## RSB6.8SMT2N
designator D?
TVS DIODE 3.5V EMD2; Manufacturer: Rohm Semiconductor; Bidirectional Channels: 1; Capacitance @ Frequency: 30pF @ 1MHz; Power Line Protection: No; Power - Peak Pulse: 10W; Type: Zener; Voltage - Breakdown (Min): 5.78V; Part Number: RSB6.8SMT2N; Applications: General Purpose; ComponentLink1Description: Datasheet; ComponentLink1URL: http://rohmfs.rohm.com/en/products/databook/datasheet/discrete/diode/zener/rsb6.8sm.pdf; ComponentLink2Description: DigiKey Link; ComponentLink2URL: http://digikey.com/product-detail/en/rohm-semiconductor/RSB6.8SMT2N/RSB6.8SMT2NTR-ND/5721280; LastUpdated: 9/2/2020 1:28:25 AM; Lifecycle Status: Active; Minimum Order: 0; Mounting Type: Surface Mount; Operating Temperature: -55°C ~ 150°C (TJ); Package / Case: SC-79, SOD-523; Packaging: TapeAndReel; PartId: 9814; Part Status: Active; Price: 0.05; Series: -; Supplier 1: DigiKey; Supplier Part Number 1: RSB6.8SMT2NTR-ND; Supplier Device Package: EMD2; Voltage - Reverse Standoff (Typ): 3.5V
footprint SOD523F
pins: 1, 2

## RSB16VTE-17
designator D?
TVS DIODE 12V UMD2; Manufacturer: Rohm Semiconductor; Bidirectional Channels: 1; Power Line Protection: No; Type: Zener; Voltage - Breakdown (Min): 14.4V; Part Number: RSB16VTE-17; Applications: General Purpose; ComponentLink1Description: Datasheet; ComponentLink1URL: http://rohmfs.rohm.com/en/products/databook/datasheet/discrete/diode/zener/rsb16v.pdf; ComponentLink2Description: DigiKey Link; ComponentLink2URL: http://digikey.com/product-detail/en/rohm-semiconductor/RSB16VTE-17/RSB16VTE-17TR-ND/2095518; LastUpdated: 9/2/2020 1:28:42 AM; Lifecycle Status: Active; Minimum Order: 0; Mounting Type: Surface Mount; Package / Case: SC-90, SOD-323F; Packaging: TapeAndReel; PartId: 10362; Part Status: Active; Price: 0.11; Series: -; Supplier 1: DigiKey; Supplier Part Number 1: RSB16VTE-17TR-ND; Supplier Device Package: UMD2; Voltage - Reverse Standoff (Typ): 12V
footprint SOD323F
pins: 1, 2

## RSB18VTE-17
designator D?
TVS DIODE 13V UMD2; Manufacturer: Rohm Semiconductor; Bidirectional Channels: 1; Power Line Protection: No; Type: Zener; Voltage - Breakdown (Min): 16.2V; Part Number: RSB18VTE-17; Applications: General Purpose; ComponentLink1Description: Datasheet; ComponentLink1URL: http://rohmfs.rohm.com/en/products/databook/datasheet/discrete/diode/zener/rsb18v.pdf; ComponentLink2Description: DigiKey Link; ComponentLink2URL: http://digikey.com/product-detail/en/rohm-semiconductor/RSB18VTE-17/RSB18VTE-17TR-ND/2095520; LastUpdated: 9/2/2020 1:28:42 AM; Lifecycle Status: Active; Minimum Order: 0; Mounting Type: Surface Mount; Package / Case: SC-90, SOD-323F; Packaging: TapeAndReel; PartId: 10361; Part Status: Active; Price: 0.11; Series: -; Supplier 1: DigiKey; Supplier Part Number 1: RSB18VTE-17TR-ND; Supplier Device Package: UMD2; Voltage - Reverse Standoff (Typ): 13V
footprint SOD323F
pins: 1, 2

## RSB27VTE-17
designator D?
TVS DIODE 24V UMD2; Manufacturer: Rohm Semiconductor; Bidirectional Channels: 1; Power Line Protection: No; Type: Zener; Voltage - Breakdown (Min): 26.2V; Part Number: RSB27VTE-17; Applications: General Purpose; ComponentLink1Description: Datasheet; ComponentLink1URL: http://rohmfs.rohm.com/en/products/databook/datasheet/discrete/diode/zener/rsb27v.pdf; ComponentLink2Description: DigiKey Link; ComponentLink2URL: http://digikey.com/product-detail/en/rohm-semiconductor/RSB27VTE-17/RSB27VTE-17TR-ND/2095522; LastUpdated: 9/2/2020 1:28:42 AM; Lifecycle Status: Active; Minimum Order: 0; Mounting Type: Surface Mount; Package / Case: SC-90, SOD-323F; Packaging: TapeAndReel; PartId: 10358; Part Status: Active; Price: 0.11; Series: -; Supplier 1: DigiKey; Supplier Part Number 1: RSB27VTE-17TR-ND; Supplier Device Package: UMD2; Voltage - Reverse Standoff (Typ): 24V
footprint SOD323F
pins: 1, 2

## RSB33VTE-17
designator D?
TVS DIODE 25V UMD2; Manufacturer: Rohm Semiconductor; Bidirectional Channels: 1; Capacitance @ Frequency: 30pF @ 1MHz; Power Line Protection: No; Type: Zener; Voltage - Breakdown (Min): 29.7V; Part Number: RSB33VTE-17; Applications: General Purpose; ComponentLink1Description: Datasheet; ComponentLink1URL: http://rohmfs.rohm.com/en/products/databook/datasheet/discrete/diode/zener/rsb33v.pdf; ComponentLink2Description: DigiKey Link; ComponentLink2URL: http://digikey.com/product-detail/en/rohm-semiconductor/RSB33VTE-17/RSB33VTE-17TR-ND/3443618; LastUpdated: 9/2/2020 1:28:42 AM; Lifecycle Status: Active; Minimum Order: 0; Mounting Type: Surface Mount; Package / Case: SC-90, SOD-323F; Packaging: TapeAndReel; PartId: 10360; Part Status: Active; Price: 0.10; Series: -; Supplier 1: DigiKey; Supplier Part Number 1: RSB33VTE-17TR-ND; Supplier Device Package: UMD2; Voltage - Reverse Standoff (Typ): 25V
footprint SOD323F
pins: 1, 2